# EAGLE library part TL431ID (library SquantorTexasInstruments)
PRECISION PROGRAMMABLE REFERENCE
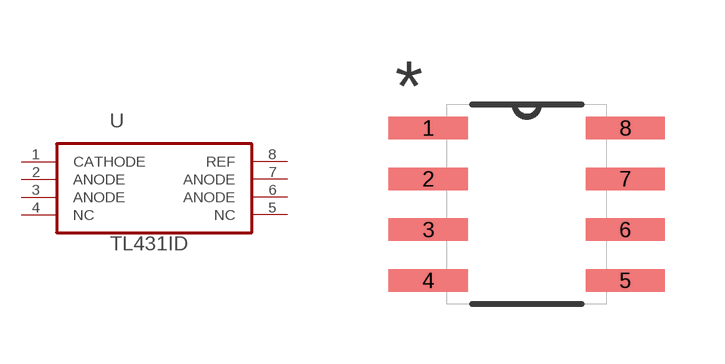
[diagram p1: symbol with the pads of SOIC127P600X175-8N; footprint SOIC127P600X175-8N]

Designator prefix U

## TL431ID (MPN: TL431ID; OC_FARNELL: 9593594; OC_NEWARK: 52F2761; PACKAGE: SOIC-8; SUPPLIER: Texas Instruments)  [SOIC127P600X175-8N]
1  CATHODE  out
2  ANODE  in
3  ANODE  in
4  NC  nc
5  NC  nc
6  ANODE  in
7  ANODE  in
8  REF  in

## Footprint SOIC127P600X175-8N (pad centres in mm)
smd 1.981 x 0.559: 1 -2.464,1.905; 2 -2.464,0.635; 3 -2.464,-0.635; 4 -2.464,-1.905; 5 2.464,-1.905; 6 2.464,-0.635; 7 2.464,0.635; 8 2.464,1.905